# EAGLE library part DSPIC30F4013 (library WASP)
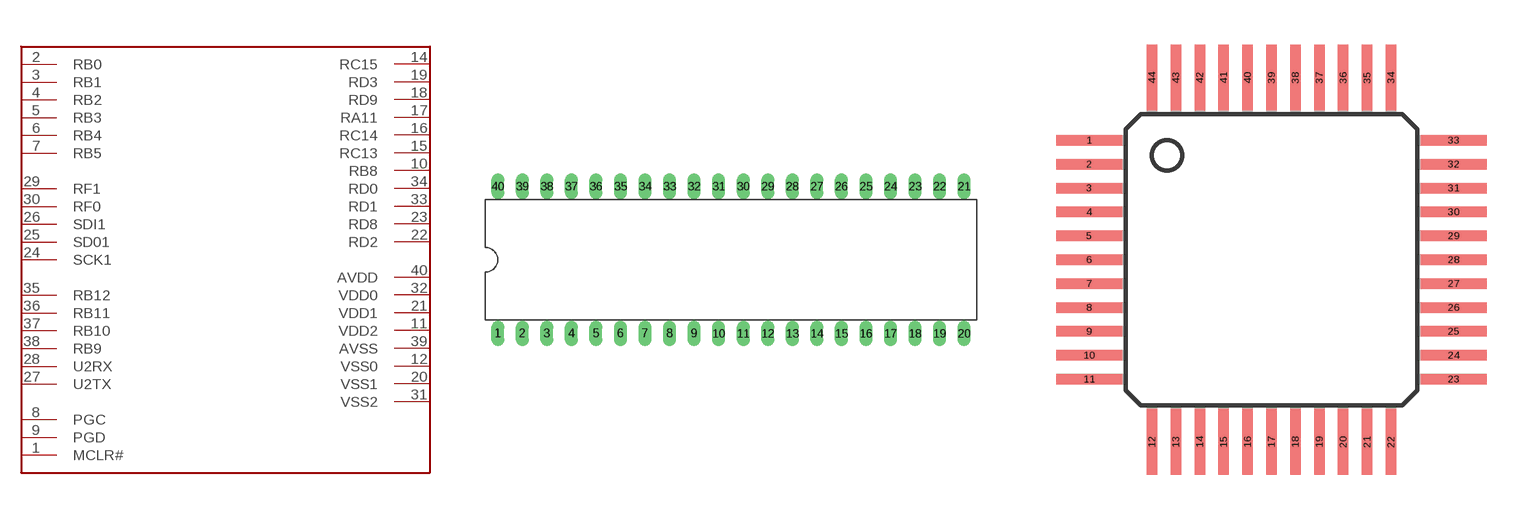
[diagram p1: symbol with the pads of DIL40; footprints DIL40, QFP44]

Designator prefix -

## DSPIC30F4013  [DIL40]
1  MCLR#
2  RB0
3  RB1
4  RB2
5  RB3
6  RB4
7  RB5
8  PGC
9  PGD
10  RB8
11  VDD2
12  VSS0
14  RC15
15  RC13
16  RC14
17  RA11
18  RD9
19  RD3
20  VSS1
21  VDD1
22  RD2
23  RD8
24  SCK1
25  SD01
26  SDI1
27  U2TX
28  U2RX
29  RF1
30  RF0
31  VSS2
32  VDD0
33  RD1
34  RD0
35  RB12
36  RB11
37  RB10
38  RB9
39  AVSS
40  AVDD

## DSPIC30F4013TQFP  [QFP44]
1  SDI1
2  U2TX
3  U2RX
4  RF1
5  RF0
6  VSS0
7  VDD0
8  RD1
9  RD0
10  RB12
11  RB11
14  RB10
15  RB9
16  AVSS
17  AVDD
18  MCLR#
19  RB0
20  RB1
21  RB2
22  RB3
23  RB4
24  RB5
25  PGC
26  PGD
27  RB8
28  VDD1
29  VSS1
31  RC15
32  RC13
35  RC14
36  RA11
37  RD9
38  RD3
39  VSS2
40  VDD2
41  RD2
42  RD8
43  SCK1
44  SD01

## Footprint DIL40 (pad centres in mm)
Dual In Line package type P
drill 0.813 long: 1 -24.13,-7.62; 2 -21.59,-7.62; 3 -19.05,-7.62; 4 -16.51,-7.62; 5 -13.97,-7.62; 6 -11.43,-7.62; 7 -8.89,-7.62; 8 -6.35,-7.62; 9 -3.81,-7.62; 10 -1.27,-7.62; 11 1.27,-7.62; 12 3.81,-7.62; 13 6.35,-7.62; 14 8.89,-7.62; 15 11.43,-7.62; 16 13.97,-7.62; 17 16.51,-7.62; 18 19.05,-7.62; 19 21.59,-7.62; 20 24.13,-7.62; 21 24.13,7.62; 22 21.59,7.62; 23 19.05,7.62; 24 16.51,7.62; 25 13.97,7.62; 26 11.43,7.62; 27 8.89,7.62; 28 6.35,7.62; 29 3.81,7.62; 30 1.27,7.62; 31 -1.27,7.62; 32 -3.81,7.62; 33 -6.35,7.62; 34 -8.89,7.62; 35 -11.43,7.62; 36 -13.97,7.62; 37 -16.51,7.62; 38 -19.05,7.62; 39 -21.59,7.62; 40 -24.13,7.62

## Footprint QFP44 (pad centres in mm)
Plastic Quad Flat Package 44 leads lead length 1.3 mm; body 10 x 10 x 1.75 mm SOT307-2 Source: www.semiconductors.philips.com .. 8XC51_8XC52_6.pdf
smd 2.2 x 0.35: 1 -6.1,4; 2 -6.1,3.2; 3 -6.1,2.4; 4 -6.1,1.6; 5 -6.1,0.8; 6 -6.1,0; 7 -6.1,-0.8; 8 -6.1,-1.6; 9 -6.1,-2.4; 10 -6.1,-3.2; 11 -6.1,-4; 23 6.1,-4; 24 6.1,-3.2; 25 6.1,-2.4; 26 6.1,-1.6; 27 6.1,-0.8; 28 6.1,0; 29 6.1,0.8; 30 6.1,1.6; 31 6.1,2.4; 32 6.1,3.2; 33 6.1,4
smd 0.35 x 2.2: 12 -4,-6.1; 13 -3.2,-6.1; 14 -2.4,-6.1; 15 -1.6,-6.1; 16 -0.8,-6.1; 17 0,-6.1; 18 0.8,-6.1; 19 1.6,-6.1; 20 2.4,-6.1; 21 3.2,-6.1; 22 4,-6.1; 34 4,6.1; 35 3.2,6.1; 36 2.4,6.1; 37 1.6,6.1; 38 0.8,6.1; 39 0,6.1; 40 -0.8,6.1; 41 -1.6,6.1; 42 -2.4,6.1; 43 -3.2,6.1; 44 -4,6.1